# EAGLE library part MOCD213 (library mocd213)
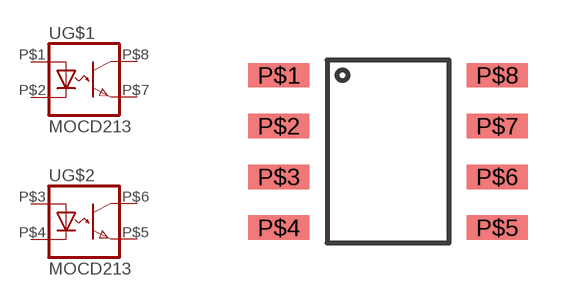
[diagram p0: symbol with the pads of SOIC-8; footprint SOIC-8]

Designator prefix -; gates G$1=MOCD213 G$2=MOCD213

## MOCD213  [SOIC-8]
P$1  G$1:A  pas
P$2  G$1:C  pas
P$3  G$2:A  pas
P$4  G$2:C  pas
P$5  G$2:EMIT  pas
P$6  G$2:COL  pas
P$7  G$1:EMIT  pas
P$8  G$1:COL  pas

## Footprint SOIC-8 (pad centres in mm)
SOIC-8 CASE 751-07 Source: http://www.onsemi.com/pub/Collateral/MC34164-D.PDF D (R-PDSO-G8)PLATIC SMALL-OUTLINE PACKAGE Source: http://focus.ti.com/lit/ds/symlink/tlc27l2.pdf
smd 1.524 x 0.61: P$1 -2.731,1.905; P$2 -2.731,0.635; P$3 -2.731,-0.635; P$4 -2.731,-1.905; P$5 2.731,-1.905; P$6 2.731,-0.635; P$7 2.731,0.635; P$8 2.731,1.905